# EAGLE library part TXB0104PWR (library adafruit_AT4004)
4-Bit Bi-Directional Level Shifter 1.2V-3.6V (VCCA) to 1.65V-5.5V (VCCB) bi-directional level shifter with auto direction sensing. Max data rate - VCCA 1.8V: 20Mbps (50ns), VCCA 3.3V: 100Mbps (10ns) Digikey: 296-21929-1-ND
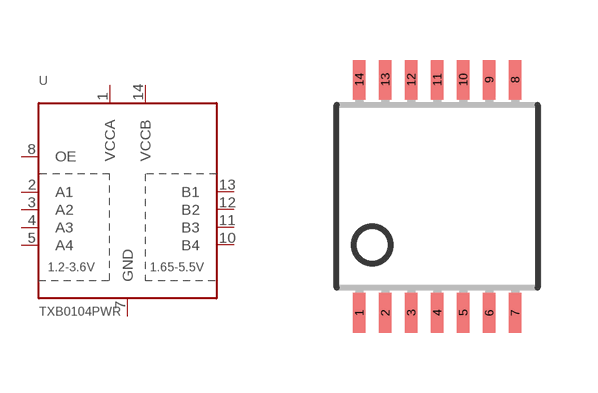
[diagram p121: symbol with the pads of TSSOP14; footprint TSSOP14]

Designator prefix U

## TXB0104PWR  [TSSOP14]
1  VCCA
2  A1
3  A2
4  A3
5  A4
7  GND
8  OE
10  B4
11  B3
12  B2
13  B1
14  VCCB

## Footprint TSSOP14 (pad centres in mm)
Thin Shrink Small Outline Plastic 14
smd 0.305 x 0.991: 1 -1.95,-2.918; 2 -1.3,-2.918; 3 -0.65,-2.918; 4 0,-2.918; 5 0.65,-2.918; 6 1.3,-2.918; 7 1.95,-2.918; 8 1.95,2.918; 9 1.3,2.918; 10 0.65,2.918; 11 0,2.918; 12 -0.65,2.918; 13 -1.3,2.918; 14 -1.95,2.918